# EAGLE library part SCT2167 (library SCT2167)
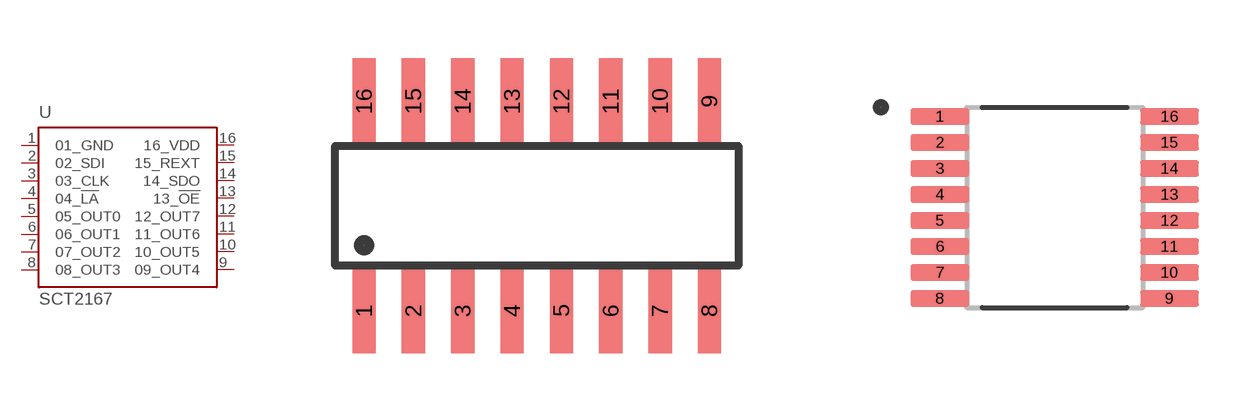
[diagram p0: symbol with the pads of SO16; footprints SO16, SSOP]

Designator prefix -

## SCT2167SOIC  [SO16]
1  01_GND  pwr
2  02_SDI  in
3  03_CLK  in
4  04_!LA!  in
5  05_OUT0  out
6  06_OUT1  out
7  07_OUT2  out
8  08_OUT3  out
9  09_OUT4  out
10  10_OUT5  out
11  11_OUT6  out
12  12_OUT7  out
13  13_!OE!  in
14  14_SDO  out
15  15_REXT
16  16_VDD  pwr

## SCT2167SSOP  [SSOP]
Pads as for SO16

## Footprint SO16 (pad centres in mm)
smd 0.6 x 2.2: 1 -4.445,-2.695; 2 -3.175,-2.695; 3 -1.905,-2.695; 4 -0.635,-2.695; 5 0.635,-2.695; 6 1.905,-2.695; 7 3.175,-2.695; 8 4.445,-2.695; 9 4.445,2.695; 10 3.175,2.695; 11 1.905,2.695; 12 0.635,2.695; 13 -0.635,2.695; 14 -1.905,2.695; 15 -3.175,2.695; 16 -4.445,2.695

## Footprint SSOP (pad centres in mm)
smd 1.47 x 0.41: 1 -2.87,2.275; 2 -2.87,1.625; 3 -2.87,0.975; 4 -2.87,0.325; 5 -2.87,-0.325; 6 -2.87,-0.975; 7 -2.87,-1.625; 8 -2.87,-2.275; 9 2.87,-2.275; 10 2.87,-1.625; 11 2.87,-0.975; 12 2.87,-0.325; 13 2.87,0.325; 14 2.87,0.975; 15 2.87,1.625; 16 2.87,2.275